# Altium schematic symbol library SBH11-PBPC-D17-ST-BK.SchLib: 1 symbol
Pins are listed as number, name and electrical type; pins without a type are passive.

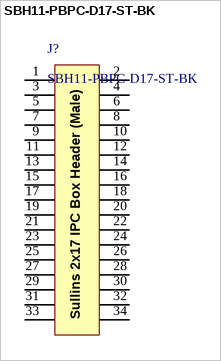
[diagram p0: symbol SBH11-PBPC-D17-ST-BK]

## SBH11-PBPC-D17-ST-BK
designator J?
Description; Manufacturer_Name: Sullins; Copyright: Copyright (C) 2026 Ultra Librarian. All rights reserved.; Manufacturer_Part_Number: SBH11-PBPC-D17-ST-BK; RefDes: RefDes; Type: Type; Datasheet: https://s3.amazonaws.com/catalogspreads-pdf/PAGE122%20.100%20SBH11%20SERIES%20MALE%20BOX%20HDR%20ST%20RA%20SMT.pdf
footprint CONN_SBH11-PBPC-D17-ST-BK_SUL
pins: 1, 2, 3, 4, 5, 6, 7, 8, 9, 10, 11, 12, 13, 14, 15, 16, 17, 18, 19, 20, 21, 22, 23, 24, 25, 26, 27, 28, 29, 30, 31, 32, 33, 34
text: Sullins 2x17 IPC Box Header (Male)